# EAGLE library part IS61WV102416BLL-10MLI (library circuit_tree)
IC
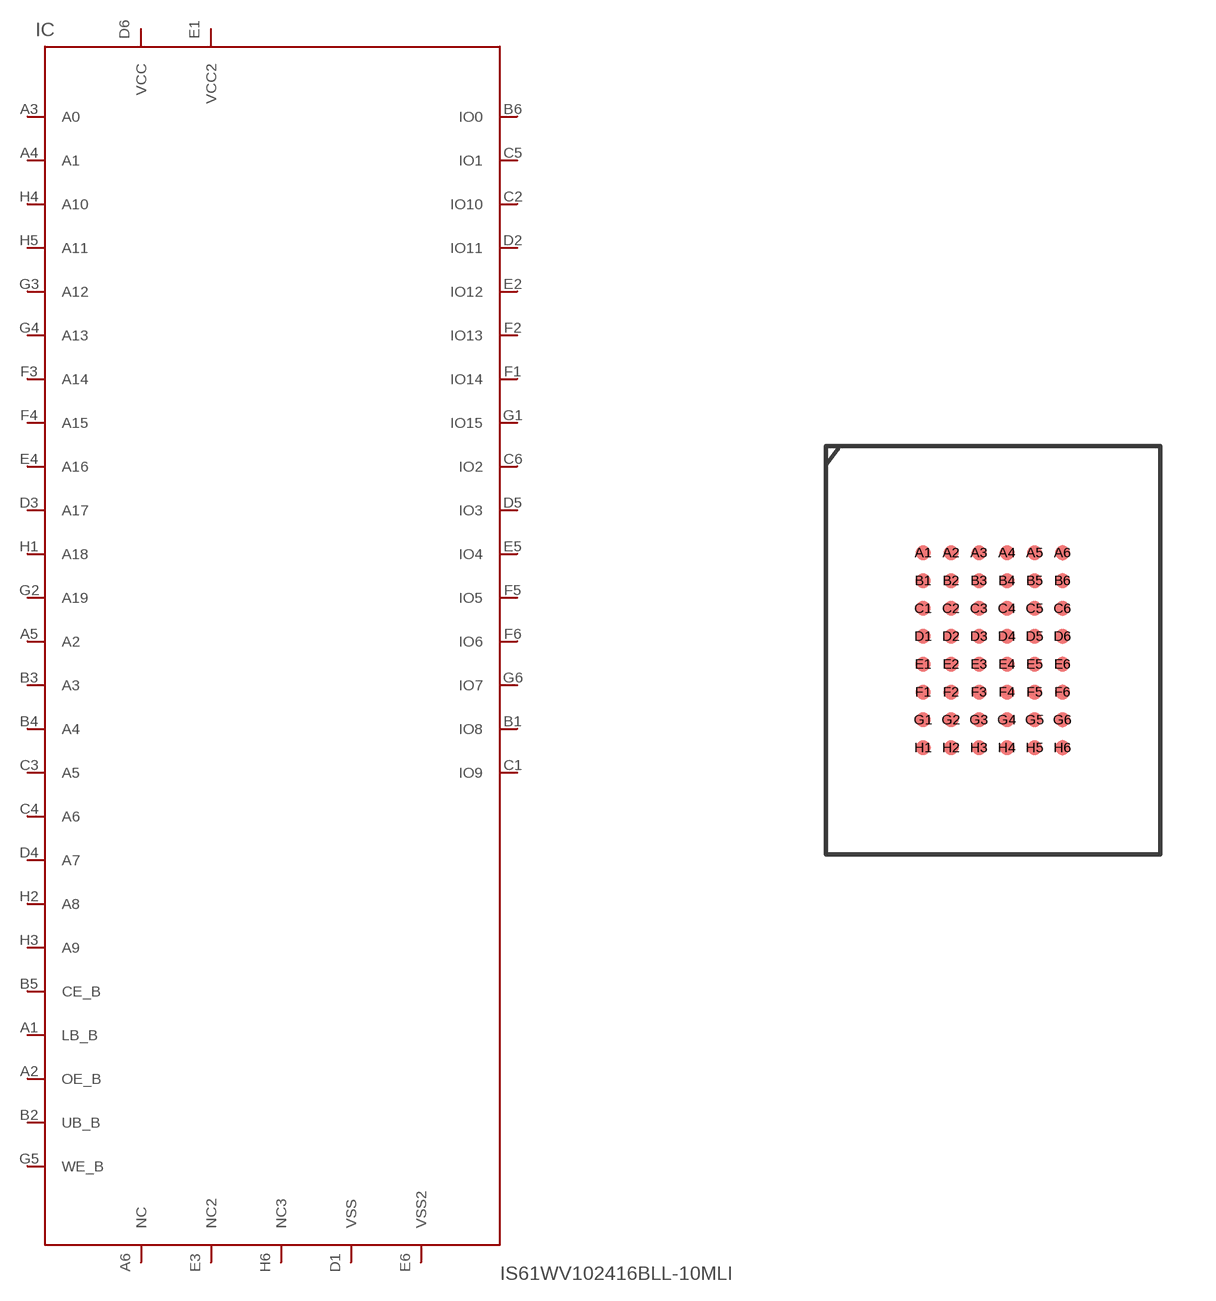
[diagram p4: symbol with the pads of IS61WV102416BLL-10MLI; footprint IS61WV102416BLL-10MLI]

Designator prefix IC

## IS61WV102416BLL-10MLI  [IS61WV102416BLL-10MLI]
A1  LB_B  pas
A2  OE_B  pas
A3  A0  pas
A4  A1  pas
A5  A2  pas
A6  NC  pas
B1  IO8  pas
B2  UB_B  pas
B3  A3  pas
B4  A4  pas
B5  CE_B  pas
B6  IO0  pas
C1  IO9  pas
C2  IO10  pas
C3  A5  pas
C4  A6  pas
C5  IO1  pas
C6  IO2  pas
D1  VSS  pas
D2  IO11  pas
D3  A17  pas
D4  A7  pas
D5  IO3  pas
D6  VCC  pas
E1  VCC2  pas
E2  IO12  pas
E3  NC2  pas
E4  A16  pas
E5  IO4  pas
E6  VSS2  pas
F1  IO14  pas
F2  IO13  pas
F3  A14  pas
F4  A15  pas
F5  IO5  pas
F6  IO6  pas
G1  IO15  pas
G2  A19  pas
G3  A12  pas
G4  A13  pas
G5  WE_B  pas
G6  IO7  pas
H1  A18  pas
H2  A8  pas
H3  A9  pas
H4  A10  pas
H5  A11  pas
H6  NC3  pas

## Footprint IS61WV102416BLL-10MLI (pad centres in mm)
smd 0.4 x 0.4: A1 0,0; A2 0.75,0; A3 1.5,0; A4 2.25,0; A5 3,0; A6 3.75,0; B1 0,-0.75; B2 0.75,-0.75; B3 1.5,-0.75; B4 2.25,-0.75; B5 3,-0.75; B6 3.75,-0.75; C1 0,-1.5; C2 0.75,-1.5; C3 1.5,-1.5; C4 2.25,-1.5; C5 3,-1.5; C6 3.75,-1.5; D1 0,-2.25; D2 0.75,-2.25; D3 1.5,-2.25; D4 2.25,-2.25; D5 3,-2.25; D6 3.75,-2.25; E1 0,-3; E2 0.75,-3; E3 1.5,-3; E4 2.25,-3; E5 3,-3; E6 3.75,-3; F1 0,-3.75; F2 0.75,-3.75; F3 1.5,-3.75; F4 2.25,-3.75; F5 3,-3.75; F6 3.75,-3.75; G1 0,-4.5; G2 0.75,-4.5; G3 1.5,-4.5; G4 2.25,-4.5; G5 3,-4.5; G6 3.75,-4.5; H1 0,-5.25; H2 0.75,-5.25; H3 1.5,-5.25; H4 2.25,-5.25; H5 3,-5.25; H6 3.75,-5.25